# EAGLE library part ATMEGA32U4BREAKOUTBOARD (library atmega32u4breakout)
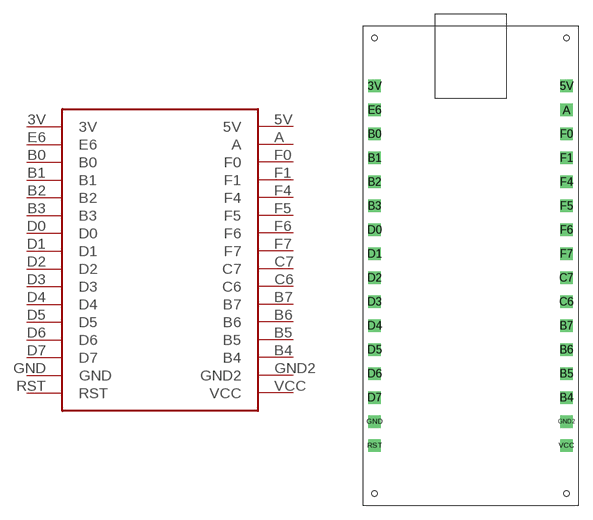
[diagram p0: symbol with the pads of ATMEGA32U4BREAKOUT; footprint ATMEGA32U4BREAKOUT]

Designator prefix -

## ATMEGA32U4BREAKOUTBOARD  [ATMEGA32U4BREAKOUT]
3V  3V
5V  5V
A  A
B0  B0
B1  B1
B2  B2
B3  B3
B4  B4
B5  B5
B6  B6
B7  B7
C6  C6
C7  C7
D0  D0
D1  D1
D2  D2
D3  D3
D4  D4
D5  D5
D6  D6
D7  D7
E6  E6
F0  F0
F1  F1
F4  F4
F5  F5
F6  F6
F7  F7
GND  GND
GND2  GND2
RST  RST
VCC  VCC

## Footprint ATMEGA32U4BREAKOUT (pad centres in mm)
Atmega32U4 Breakout Board von Adafruit als Part
drill 0.8 square: 3V -10.16,19.05; 5V 10.16,19.05; A 10.16,16.51; B0 -10.16,13.97; B1 -10.16,11.43; B2 -10.16,8.89; B3 -10.16,6.35; B4 10.16,-13.97; B5 10.16,-11.43; B6 10.16,-8.89; B7 10.16,-6.35; C6 10.16,-3.81; C7 10.16,-1.27; D0 -10.16,3.81; D1 -10.16,1.27; D2 -10.16,-1.27; D3 -10.16,-3.81; D4 -10.16,-6.35; D5 -10.16,-8.89; D6 -10.16,-11.43; D7 -10.16,-13.97; E6 -10.16,16.51; F0 10.16,13.97; F1 10.16,11.43; F4 10.16,8.89; F5 10.16,6.35; F6 10.16,3.81; F7 10.16,1.27; GND -10.16,-16.51; GND2 10.16,-16.51; RST -10.16,-19.05; VCC 10.16,-19.05
hole 0.6 at -10.16,24.13
hole 0.6 at 10.16,24.13
hole 0.6 at -10.16,-24.13
hole 0.6 at 10.16,-24.13